# Altium schematic symbol library Schlib1.SchLib: 1 symbol
Pins are listed as number, name and electrical type; pins without a type are passive.

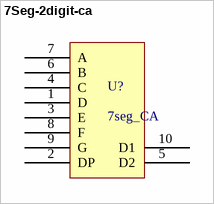
[diagram p0: symbol 7Seg-2digit-ca]

## 7Seg-2digit-ca
designator U?, comment 7seg_CA
footprint 7seg
pins: 1 D, 2 DP, 3 E, 4 C, 5 D2, 6 B, 7 A, 8 F, 9 G, 10 D1